# EAGLE library part DS1631 (library be_sensor)
edited: Mario Blunk / Blunk electronic
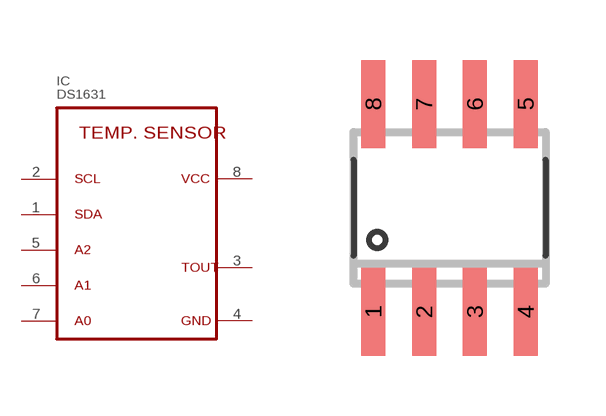
[diagram p1: symbol with the pads of S_SO8; footprint S_SO8]

Designator prefix IC

## DS1631Z+ (BOM: YES; COMMISSIONED: 2019-05-22; PART_CODE_BEL: IC_PAC_S_SO8_VAL_DS1631Z+)  [S_SO8]
1  SDA
2  SCL
3  TOUT  out
4  GND  pwr
5  A2  in
6  A1  in
7  A0  in
8  VCC  pwr

## Footprint S_SO8 (pad centres in mm)
edited: Mario Blunk / Blunk electronic date: 2019-05-22
smd 0.6 x 2.2: 1 -1.905,-2.6; 2 -0.635,-2.6; 3 0.635,-2.6; 4 1.905,-2.6; 5 1.905,2.6; 6 0.635,2.6; 7 -0.635,2.6; 8 -1.905,2.6